# EAGLE library part AVR-ISP-6 (library Neel)
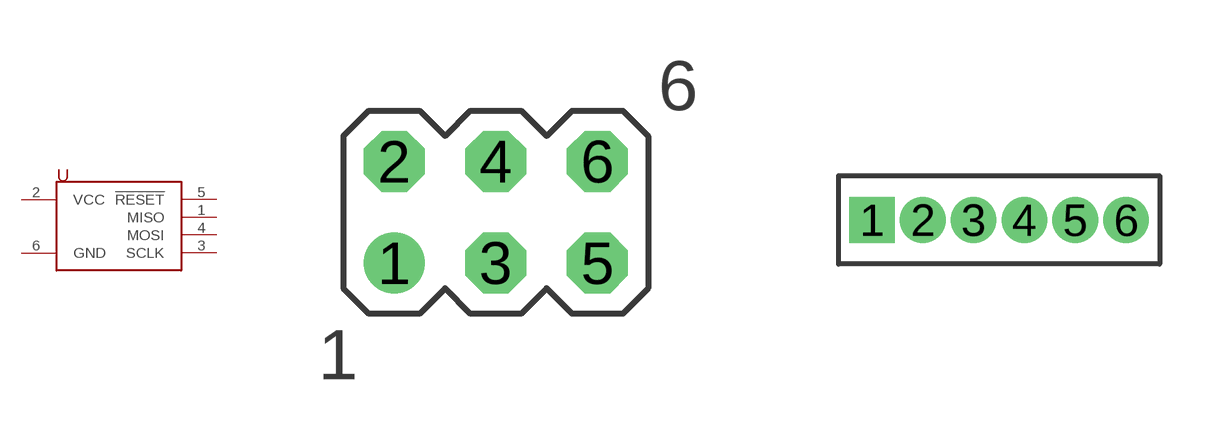
[diagram p8: symbol with the pads of AVR-ISP-6; footprints AVR-ISP-6, 1X6-0.05]

Designator prefix -

## AVR-ISP-6  [AVR-ISP-6]
1  MISO
2  VCC
3  SCLK
4  MOSI
5  !RESET
6  GND

## AVR-ISP-6INLINE  [1X6-0.05]
Pads as for AVR-ISP-6

## AVR-ISP-6SMT  [2X3-0.1-SMT]
Pads as for AVR-ISP-6

## Footprint AVR-ISP-6 (pad centres in mm)
drill 1.016: 1 -2.54,-1.27
drill 1.016 octagon: 2 -2.54,1.27; 3 0,-1.27; 4 0,1.27; 5 2.54,-1.27; 6 2.54,1.27

## Footprint 1X6-0.05 (pad centres in mm)
drill 0.635 pad 0.889 square: 1 0,0
drill 0.635 pad 0.889: 2 1.27,0; 3 2.54,0; 4 3.81,0; 5 5.08,0; 6 6.35,0

## Footprint 2X3-0.1-SMT (pad centres in mm)
smd 1.27 x 2.54: 1 -2.54,2.73; 2 -2.54,-2.73; 3 0,2.73; 4 0,-2.73; 5 2.54,2.73; 6 2.54,-2.73